# Altium schematic symbol library Diode_single.SchLib: 1 symbol
Pins are listed as number, name and electrical type; pins without a type are passive.

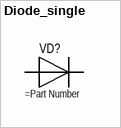
[diagram p0: symbol Diode_single]

## Diode_single
designator VD?
pins: 1, 2